# Altium footprint library PCB_LIB.PcbLib: 3 footprints
Each footprint in its own frame and in the unit in brackets; x right, y up, seen from the top. Pads: shape width x height; smd on the part's side, far side on the other; paste and mask are expansions set on the pad; w line width, h text height; cw(c..) or ccw(c..) is an arc to the next point about the centre after c.
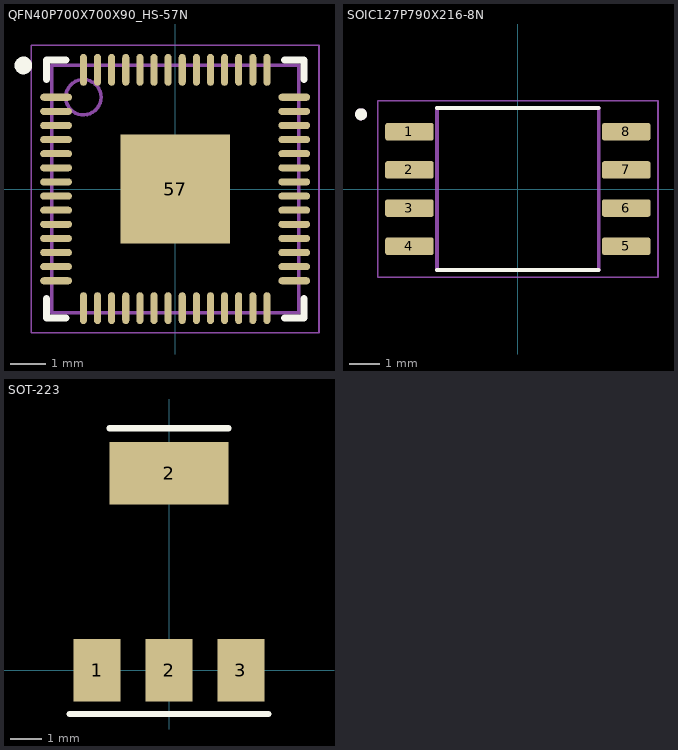
[diagram p0: the footprints below, top view; thin cyan lines are the x and y axes]

## QFN40P700X700X90_HS-57N [mm] "QFN, 56-Leads, Body 7.00x7.00mm, Pitch 0.40mm, Thermal Pad 0.31x0.31mm, IPC Medium Density"
height 0.9
pads (57):
  oval 0.9x0.2 smd: 1(-3.375,2.6) 2(-3.375,2.2) 3(-3.375,1.8) 4(-3.375,1.4) 5(-3.375,1) 6(-3.375,0.6) 7(-3.375,0.2) 8(-3.375,-0.2) 9(-3.375,-0.6) 10(-3.375,-1) 11(-3.375,-1.4) 12(-3.375,-1.8) 13(-3.375,-2.2) 14(-3.375,-2.6) 29(3.375,-2.6) 30(3.375,-2.2) 31(3.375,-1.8) 32(3.375,-1.4) 33(3.375,-1) 34(3.375,-0.6) 35(3.375,-0.2) 36(3.375,0.2) 37(3.375,0.6) 38(3.375,1) 39(3.375,1.4) 40(3.375,1.8) 41(3.375,2.2) 42(3.375,2.6)
  oval 0.2x0.9 smd: 15(-2.6,-3.375) 16(-2.2,-3.375) 17(-1.8,-3.375) 18(-1.4,-3.375) 19(-1,-3.375) 20(-0.6,-3.375) 21(-0.2,-3.375) 22(0.2,-3.375) 23(0.6,-3.375) 24(1,-3.375) 25(1.4,-3.375) 26(1.8,-3.375) 27(2.2,-3.375) 28(2.6,-3.375) 43(2.6,3.375) 44(2.2,3.375) 45(1.8,3.375) 46(1.4,3.375) 47(1,3.375) 48(0.6,3.375) 49(0.2,3.375) 50(-0.2,3.375) 51(-0.6,3.375) 52(-1,3.375) 53(-1.4,3.375) 54(-1.8,3.375) 55(-2.2,3.375) 56(-2.6,3.375)
  rect 3.1x3.1 smd: 57(0,0)
Top Overlay:
  circle w0.25: c-4.3,3.5 r0.125
  lines w0.2: -3.65,-3.1 -3.65,-3.65 -3.1,-3.65 ; -3.65,3.1 -3.65,3.65 -3.1,3.65 ; 3.1,-3.65 3.65,-3.65 3.65,-3.1 ; 3.1,3.65 3.65,3.65 3.65,3.1
Mechanical 13:
  circle w0.1: c-2.6,2.6 r0.5
  lines w0.1: -3.5,-3.5 3.5,-3.5 3.5,3.5 -3.5,3.5 -3.5,-3.5
Mechanical 15:
  lines w0.05: -4.075,-4.075 4.075,-4.075 4.075,4.075 -4.075,4.075 -4.075,-4.075
  lines w0.1: -0.5,0 0.5,0 ; 0,-0.5 0,0.5
3D body "QFN40P700X700X90_HS-57N.step": height 0.9, standoff 0, extent -3.51,-3.51 3.51,3.51

## SOIC127P790X216-8N [mm]
pads (8):
  rrect25% 1.61x0.58 smd: 1(-3.605,1.905) 2(-3.605,0.635) 3(-3.605,-0.635) 4(-3.605,-1.905) 5(3.605,-1.905) 6(3.605,-0.635) 7(3.605,0.635) 8(3.605,1.905)
Top Overlay:
  circle w0.2: c-5.215,2.485 r0.1
  lines w0.127: -2.69,-2.69 2.69,-2.69 ; -2.69,2.69 2.69,2.69
Mechanical 13:
  circle w0.2: c-5.215,2.485 r0.1
  lines w0.127: -2.69,-2.69 2.69,-2.69 2.69,2.69 -2.69,2.69 -2.69,-2.69
Mechanical 15:
  lines w0.05: -4.66,-2.94 4.66,-2.94 4.66,2.94 -4.66,2.94 -4.66,-2.94
3D body "step_temp.STEP": height 2.16, standoff 0, extent -3.95,-2.64 3.95,2.64

## SOT-223 [mm]
pads (4):
  rect 1.5x2 smd: 1(-2.3,0) 2(0,0) 3(2.3,0)
  rect 3.8x2 smd: 2(0,6.3)
Top Overlay:
  lines w0.2: -3.175,-1.397 3.175,-1.397 ; -1.905,7.747 1.905,7.747
3D body "NX1117CADJZ.STEP": height 1.8, standoff 0, extent -3.25,-0.198 3.25,6.802